# Altium schematic symbol library zhaichl.SchLib: 9 symbols
Pins are listed as number, name and electrical type; pins without a type are passive.

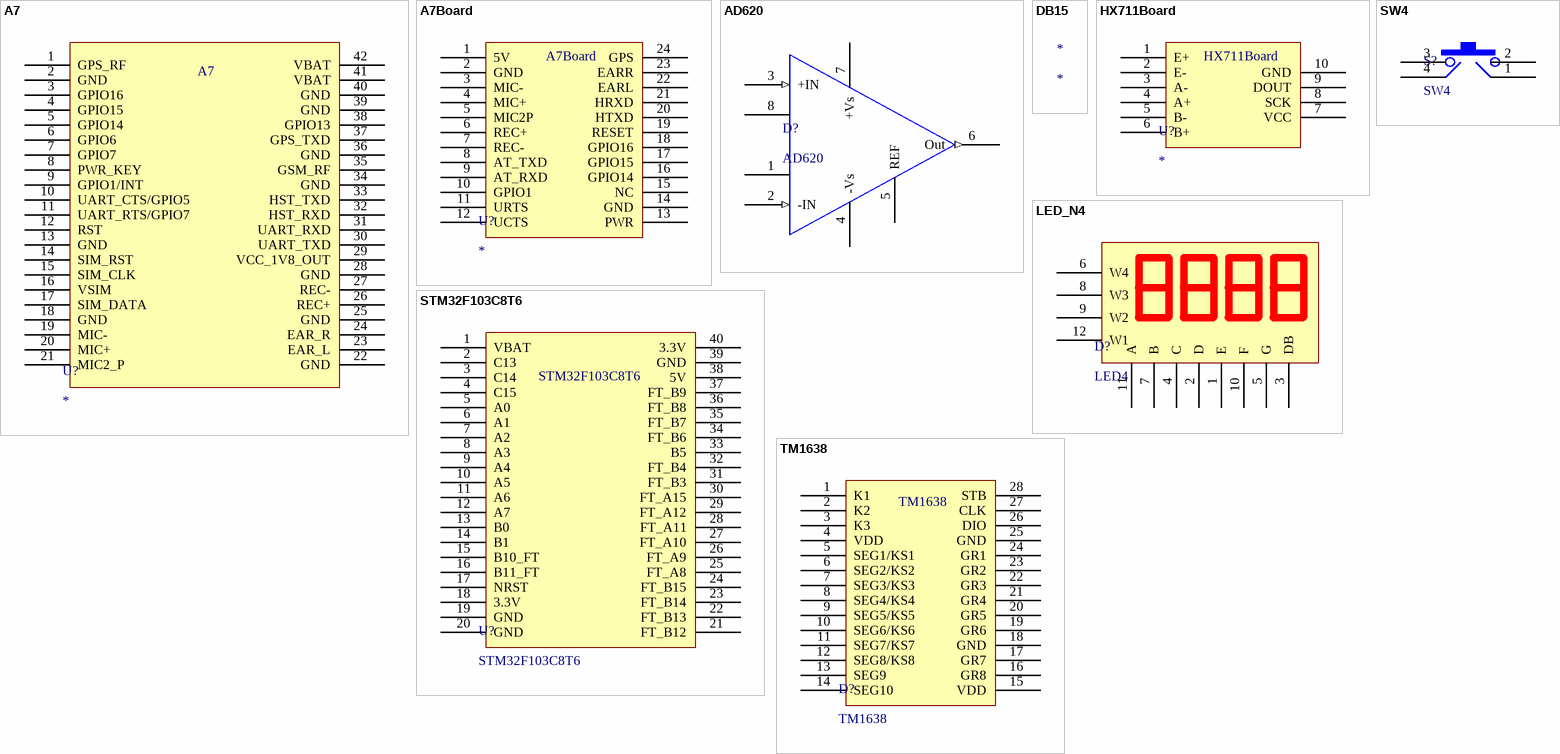
[diagram p0: symbols A7 to TM1638]

## A7
designator U?
pins: 1 GPS_RF, 2 GND, 3 GPIO16, 4 GPIO15, 5 GPIO14, 6 GPIO6, 7 GPIO7, 8 PWR_KEY, 9 GPIO1/INT, 10 UART_CTS/GPIO5, 11 UART_RTS/GPIO7, 12 RST, 13 GND, 14 SIM_RST, 15 SIM_CLK, 16 VSIM, 17 SIM_DATA, 18 GND, 19 MIC-, 20 MIC+, 21 MIC2_P, 22 GND, 23 EAR_L, 24 EAR_R, 25 GND, 26 REC+, 27 REC-, 28 GND, 29 VCC_1V8_OUT, 30 UART_TXD, 31 UART_RXD, 32 HST_RXD, 33 HST_TXD, 34 GND, 35 GSM_RF, 36 GND, 37 GPS_TXD, 38 GPIO13, 39 GND, 40 GND, 41 VBAT, 42 VBAT

## A7Board
designator U?
pins: 1 5V, 2 GND, 3 MIC-, 4 MIC+, 5 MIC2P, 6 REC+, 7 REC-, 8 AT_TXD, 9 AT_RXD, 10 GPIO1, 11 URTS, 12 UCTS, 13 PWR, 14 GND, 15 NC, 16 GPIO14, 17 GPIO15, 18 GPIO16, 19 RESET, 20 HTXD, 21 HRXD, 22 EARL, 23 EARR, 24 GPS

## AD620
designator D?
pins: 1 Rg, 2 -IN (in), 3 +IN (in), 4 -Vs (power), 5 REF (power), 6 Out (out), 7 +Vs (power), 8 Rg

## DB15
designator *

## HX711Board
designator U?
pins: 1 E+, 2 E-, 3 A-, 4 A+, 5 B-, 6 B+, 7 VCC, 8 SCK, 9 DOUT, 10 GND

## LED_N4
designator D?, comment LED4
pins: 1 E, 2 D, 3 DB, 4 C, 5 G, 6 W4, 7 B, 8 W3, 9 W2, 10 F, 11 A, 12 W1

## STM32F103C8T6
designator U?
STM32F103C8T6 Board
pins: 1 VBAT, 2 C13, 3 C14, 4 C15, 5 A0, 6 A1, 7 A2, 8 A3, 9 A4, 10 A5, 11 A6, 12 A7, 13 B0, 14 B1, 15 B10_FT, 16 B11_FT, 17 NRST, 18 3.3V, 19 GND, 20 GND, 21 FT_B12, 22 FT_B13, 23 FT_B14, 24 FT_B15, 25 FT_A8, 26 FT_A9, 27 FT_A10, 28 FT_A11, 29 FT_A12, 30 FT_A15, 31 FT_B3, 32 FT_B4, 33 B5, 34 FT_B6, 35 FT_B7, 36 FT_B8, 37 FT_B9, 38 5V, 39 GND, 40 3.3V

## SW4
designator S?
pins: 1, 2, 3, 4

## TM1638
designator D?
pins: 1 K1, 2 K2, 3 K3, 4 VDD, 5 SEG1/KS1, 6 SEG2/KS2, 7 SEG3/KS3, 8 SEG4/KS4, 9 SEG5/KS5, 10 SEG6/KS6, 11 SEG7/KS7, 12 SEG8/KS8, 13 SEG9, 14 SEG10, 15 VDD, 16 GR8, 17 GR7, 18 GND, 19 GR6, 20 GR5, 21 GR4, 22 GR3, 23 GR2, 24 GR1, 25 GND, 26 DIO, 27 CLK, 28 STB